# EAGLE library part TSC103 (library st-microelectronics)
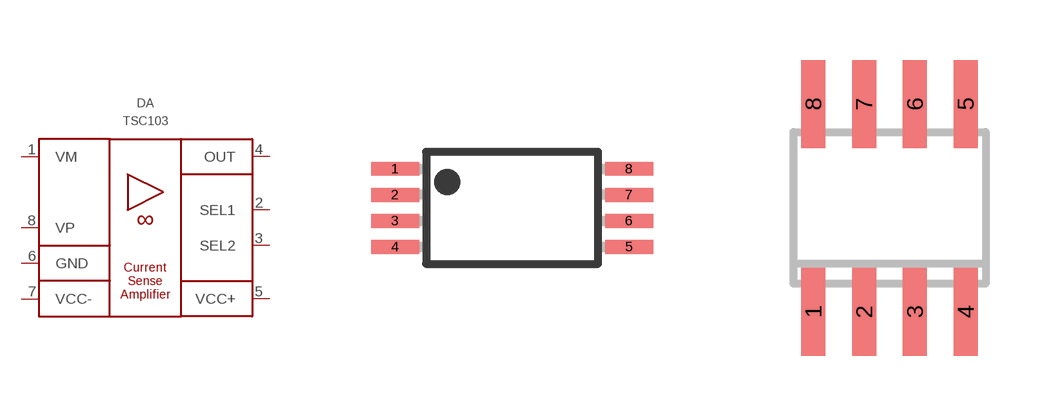
[diagram p12: symbol with the pads of TSSOP8; footprints TSSOP8, SO08]

Designator prefix DA

## TSC103IPT  [TSSOP8]
1  VM  pas
2  SEL1  in
3  SEL2  in
4  OUT  out
5  VCC+  pwr
6  GND  pwr
7  VCC-  pwr
8  VP  pas

## TSC103IDT  [SO08]
Pads as for TSSOP8

## TSC103IYPT  [TSSOP8]
Pads as for TSSOP8

## TSC103IYDT  [SO08]
Pads as for TSSOP8

## Footprint TSSOP8 (pad centres in mm)
Plastic Small Outline
smd 1.2 x 0.35: 1 -2.925,0.975; 2 -2.925,0.325; 3 -2.925,-0.325; 4 -2.925,-0.975; 5 2.925,-0.975; 6 2.925,-0.325; 7 2.925,0.325; 8 2.925,0.975

## Footprint SO08 (pad centres in mm)
SMALL OUTLINE INTEGRATED CIRCUIT body 3.9 mm/JEDEC MS-012AA
smd 0.6 x 2.2: 1 -1.905,-2.6; 2 -0.635,-2.6; 3 0.635,-2.6; 4 1.905,-2.6; 5 1.905,2.6; 6 0.635,2.6; 7 -0.635,2.6; 8 -1.905,2.6